# Altium footprint library SMB.PcbLib: 1 footprints
Each footprint in its own frame and in the unit in brackets; x right, y up, seen from the top. Pads: shape width x height; smd on the part's side, far side on the other; paste and mask are expansions set on the pad; w line width, h text height; cw(c..) or ccw(c..) is an arc to the next point about the centre after c.
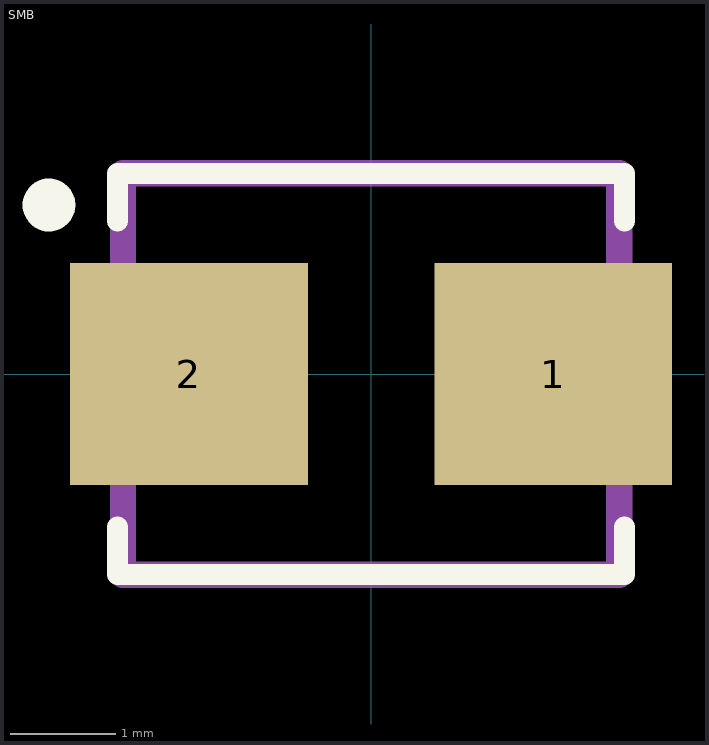
[diagram p0: the footprint, top view; thin cyan lines are the x and y axes]

## SMB [mm] "Diod"
height 2.4
pads (2):
  rect 2.25x2.1 smd: 1(1.725,0) 2(-1.725,0)
Top Overlay:
  circle w0.25: c-3.05,1.6 r0.125
  lines w0.2: -2.4,-1.45 -2.4,-1.9 2.4,-1.9 2.4,-1.45 ; -2.4,1.45 -2.4,1.9 2.4,1.9 2.4,1.45
Mechanical 13 (Mech13):
  lines w0.25: -2.35,-1.9 -2.35,1.9 2.35,1.9 2.35,-1.9 -2.35,-1.9
  text ".Designator" at -3.3,2.2 h2.15
3D body "SMB.step": height 2.4, standoff 0, extent -2.57,-1.9 2.57,1.9